# Altium footprint library con-molex-micro-fit-3_0.PCBLIB: 194 footprints (part 13 of 13)
Each footprint in its own frame and in the unit in brackets; x right, y up, seen from the top. Pads: shape width x height; smd on the part's side, far side on the other; paste and mask are expansions set on the pad; w line width, h text height; cw(c..) or ccw(c..) is an arc to the next point about the centre after c.
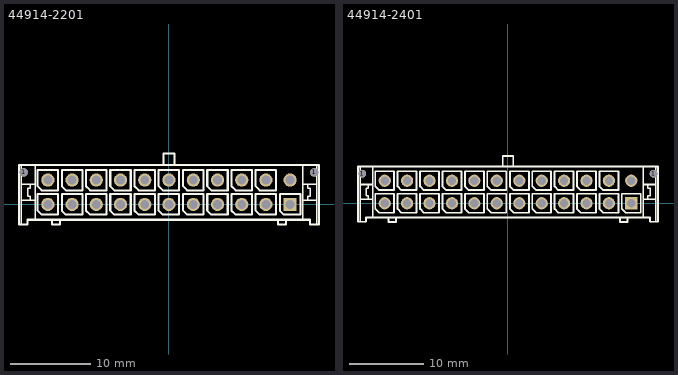
[diagram p12: the footprints below, top view; thin cyan lines are the x and y axes]

## 44914-2201 [mil]
pads (24):
  round 41 hole 41: 1(-708.66,156) 1(709,156)
  rect 64.5x64.5 hole 43: P$1(591,0)
  round 64.5 hole 43: P$2(473,0) P$3(355,0) P$4(237,0) P$5(119,0) P$6(0,0) P$7(-118.11,0) P$8(-236.22,0) P$9(-354.33,0) P$10(-472.44,0) P$11(-590.55,0) P$12(591,119) P$13(473,119) P$14(355,119) P$15(237,119) P$16(119,119) P$17(0,119) P$18(-118.11,119) P$19(-236.22,119) P$20(-354.33,119) P$21(-472.44,119) P$22(-590.55,119)
Top Overlay:
  drawing of 166 lines, arcs and shapes, not listed
Bottom Overlay:
  lines w10: 541,69 541,169 641,169 641,89 621,69 541,69

## 44914-2401 [mil]
pads (26):
  round 41 hole 41: 1(-767.72,156) 1(768,156)
  rect 64.5x64.5 hole 43: P$1(650,0)
  round 64.5 hole 43: P$2(532,0) P$3(414,0) P$4(296,0) P$5(178,0) P$6(60,0) P$7(-59.06,0) P$8(-177.17,0) P$9(-295.28,0) P$10(-413.39,0) P$11(-531.5,0) P$12(-649.61,0) P$13(650,119) P$14(532,119) P$15(414,119) P$16(296,119) P$17(178,119) P$18(60,119) P$19(-59.06,119) P$20(-177.17,119) P$21(-295.28,119) P$22(-413.39,119) P$23(-531.5,119) P$24(-649.61,119)
Top Overlay:
  drawing of 176 lines, arcs and shapes, not listed
Bottom Overlay:
  lines w10: 600,69 600,169 700,169 700,89 680,69 600,69